# EAGLE library part PWR_REG_BUCK_LMR16006 (library !GPLIB_ACTIVE)
SIMPLE SWITCHER® 60 V 0.6 A Buck Regulators With High Efficiency ECO Mode
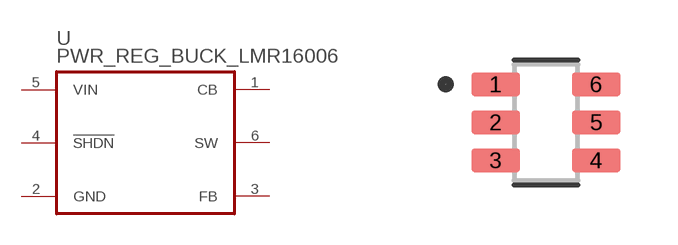
[diagram p94: symbol with the pads of SOT95P280X145-6N; footprint SOT95P280X145-6N]

Designator prefix U

## PWR_REG_BUCK_LMR16006_LMR16006XDDCR  [SOT95P280X145-6N]
1  CB
2  GND  pwr
3  FB  in
4  !SHDN  in
5  VIN  pwr
6  SW  out

## Footprint SOT95P280X145-6N (pad centres in mm)
smd 1.21 x 0.58: 1 -1.255,0.95; 2 -1.255,0; 3 -1.255,-0.95; 4 1.255,-0.95; 5 1.255,0; 6 1.255,0.95